# Altium footprint library Inductor1.PcbLib: 19 footprints (part 1 of 2)
Each footprint in its own frame and in the unit in brackets; x right, y up, seen from the top. Pads: shape width x height; smd on the part's side, far side on the other; paste and mask are expansions set on the pad; w line width, h text height; cw(c..) or ccw(c..) is an arc to the next point about the centre after c.
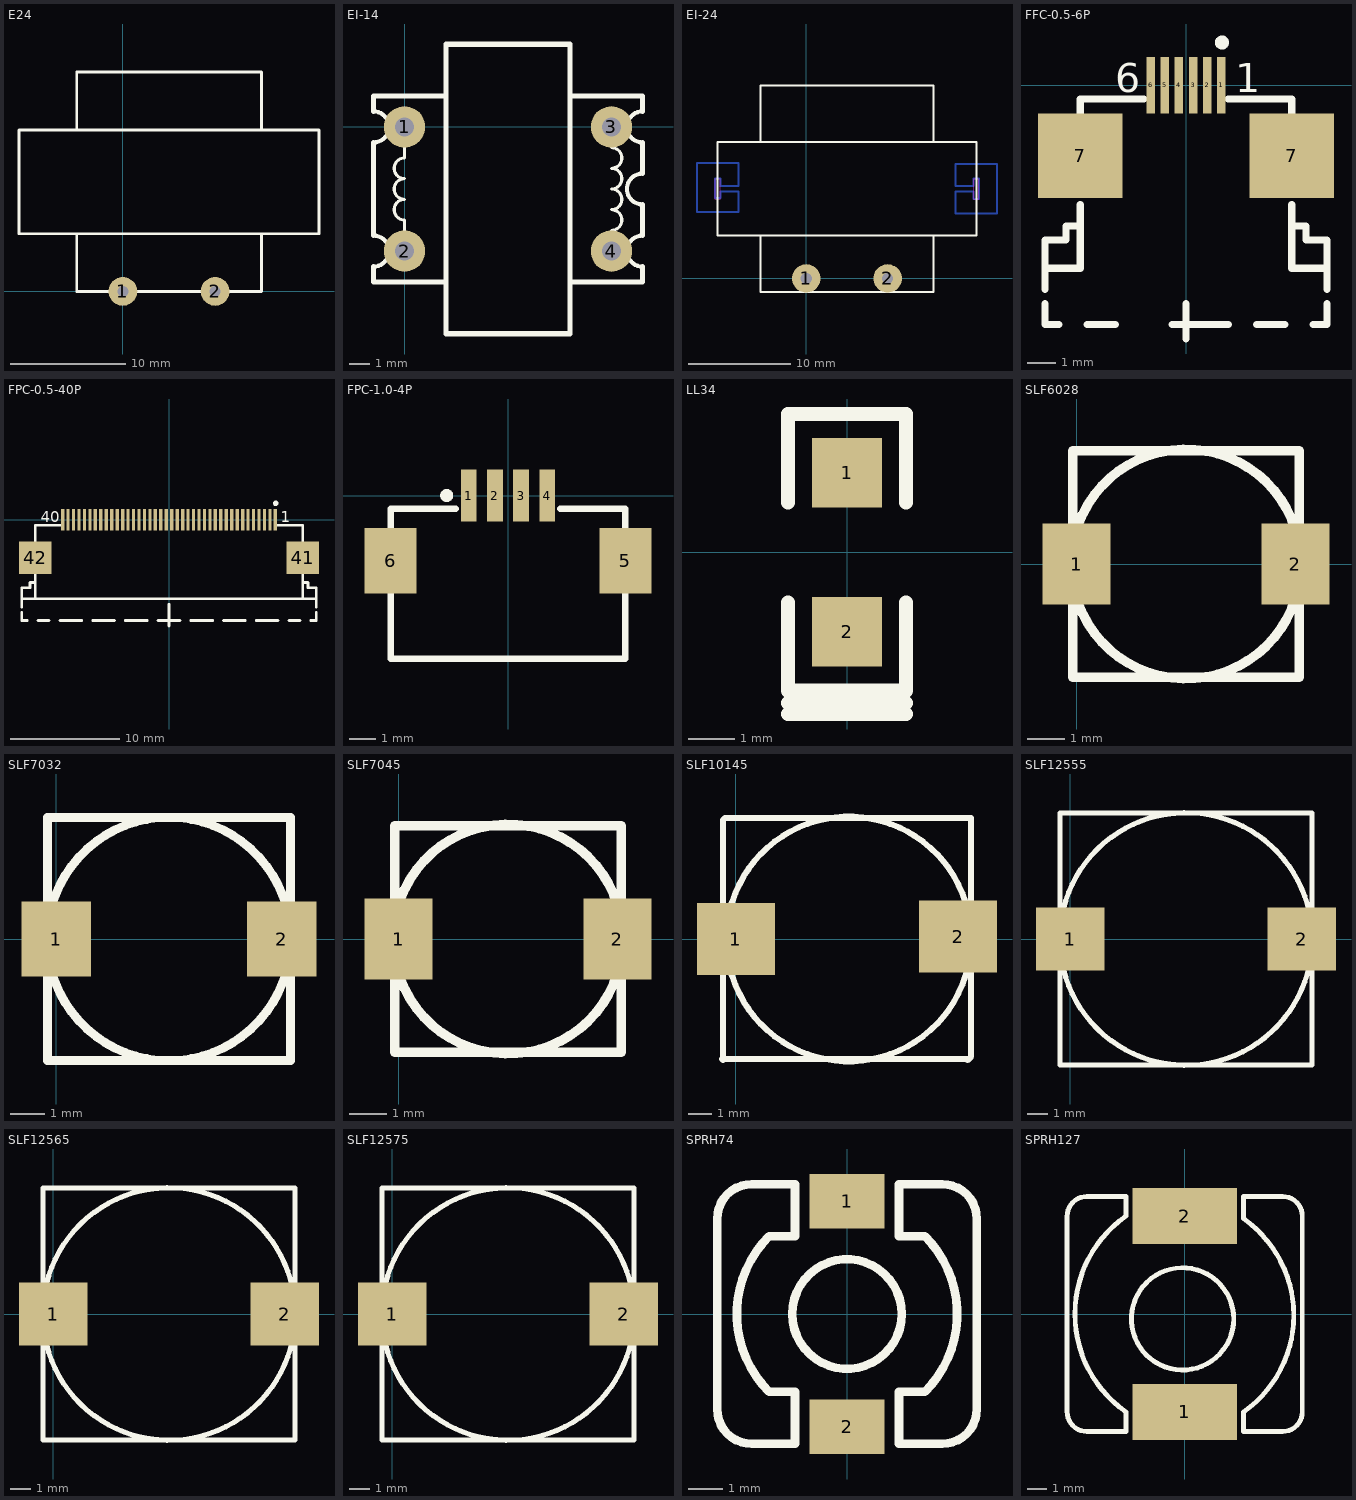
[diagram p0: the footprints below, top view; thin cyan lines are the x and y axes]

## E24 [mm]
pads (2):
  round 2.5 hole 0.94: 1(0,0) 2(8,0)
Top Overlay:
  lines w0.25: -9,5 -9,14 ; -9,5 -4,5 -4,0 12,0 12,5 17,5 ; -9,5 -9,14 ; -9,5 17,5 ; -9,14 -4,14 -4,19 12,19 12,14 17,14 ; -9,14 17,14 ; 17,5 17,14 ; 17,5 17,14

## EI-14 [mm]
pads (4):
  round 2 hole 0.93: 1(0,0) 2(0,-6) 3(10,0) 4(10,-6)
Top Overlay:
  lines w0.15: 0,-5.5 0,-5 0,-4.5 cw(c0,-4) 0,-3.5 cw(c0,-3) 0,-2.5 cw(c0,-2) 0,-1.5 0,-1 0,-0.5 ; 10,-5.5 10,-5 ccw(c10,-4.5) 10,-4 ccw(c10,-3.5) 10,-3 ccw(c10,-2.5) 10,-2 ccw(c10,-1.5) 10,-1 10,-0.5
  lines w0.2: -1.5,-6.75 ccw(c-1.5,-6) -1.5,-5.25 ; -1.5,-0.75 ccw(c-1.5,0) -1.5,0.75 ; 11.5,-6.75 cw(c11.5,-6) 11.5,-5.25 ; 11.5,-3.75 cw(c11.5,-3) 11.5,-2.25 ; 11.5,-0.75 cw(c11.5,0) 11.5,0.75
  lines w0.254: -1.5,-6.75 -1.5,-7.5 2,-7.5 ; -1.5,-5.25 -1.5,-0.75 ; -1.5,0.75 -1.5,1.5 2,1.5 ; 8,-7.5 11.5,-7.5 11.5,-6.75 ; 8,1.5 11.5,1.5 11.5,0.75 ; 11.5,-5.25 11.5,-3.75 ; 11.5,-2.25 11.5,-0.75 ; 2,-10 2,4 8,4 8,-10 2,-10

## EI-24 [mm]
pads (2):
  round 2.8 hole 1.1: 1(0,0) 2(8,0)
Bottom Layer:
  lines w0.2: -10.722,6.526 -6.658,6.526 -6.658,8.558 -8.436,8.558 -8.436,7.923 -8.944,7.923 -8.944,9.828 -8.436,9.828 -8.436,9.066 -6.658,9.066 -6.658,11.352 -10.722,11.352 -10.722,6.526 ; 14.678,6.399 18.742,6.399 18.742,11.225 14.678,11.225 14.678,9.066 16.456,9.066 16.456,9.828 16.964,9.828 16.964,7.796 16.456,7.796 16.456,8.558 14.678,8.558 14.678,6.399
Top Overlay:
  lines w0.2: -4.499,4.24 -4.499,-1.348 12.519,-1.348 12.519,4.24 ; -4.499,13.384 -4.499,18.972 12.519,18.972 12.519,13.384 ; -8.69,4.24 -8.69,13.384 16.71,13.384 16.71,4.24 -8.69,4.24
Keep-Out Layer:
  lines w0.05: -8.954,7.784 -8.446,7.784 -8.446,9.816 -8.954,9.816 -8.954,7.784 ; 16.446,7.784 16.954,7.784 16.954,9.816 16.446,9.816 16.446,7.784

## FFC-0.5-6P [mm]
height 1
pads (8):
  rect 0.3x2 smd: 1(1.25,0) 2(0.75,0) 3(0.25,0) 4(-0.25,0) 5(-0.75,0) 6(-1.25,0)
  rect 3x3 smd: 7(-3.75,-2.5) 7(3.75,-2.5)
Top Overlay:
  circle w0.25: c1.275,1.51 r0.125
  lines w0.254: -5,-7.74 -5,-8.49 -4.5,-8.49 ; -5,-7.24 -5,-6.49 ; -3.75,-4.99 -4.25,-4.99 -4.25,-5.49 -5,-5.49 -5,-6.49 ; -3.75,-4.24 -3.75,-6.49 -5,-6.49 ; -3.75,-1.99 -3.75,-0.49 -1.5,-0.49 ; -3.5,-8.49 -2.5,-8.49 ; -0.5,-8.49 1.5,-8.49 ; 0,-9 0,-7.75 ; 1.5,-0.49 3.75,-0.49 3.75,-1.99 ; 2.5,-8.49 3.5,-8.49 ; 3.75,-4.99 4.25,-4.99 4.25,-5.49 5,-5.49 5,-6.49 ; 3.75,-4.24 3.75,-6.49 5,-6.49 ; 4.5,-8.49 5,-8.49 5,-7.74 ; 5,-7.24 5,-6.49
  text "1" at 1.75,-0.25 h1.02
  text "6" at -2.5,-0.25 h1.02
3D body "5664.stp": height 2, standoff 0, extent -4.55,-6.45 4.55,-0.05

## FPC-0.5-40P [mm]
height 1
pads (42):
  rect 0.3x2 smd: 1(9.75,0) 2(9.25,0) 3(8.75,0) 4(8.25,0) 5(7.75,0) 6(7.25,0) 7(6.75,0) 8(6.25,0) 9(5.75,0) 10(5.25,0) 11(4.75,0) 12(4.25,0) 13(3.75,0) 14(3.25,0) 15(2.75,0) 16(2.25,0) 17(1.75,0) 18(1.25,0) 19(0.75,0) 20(0.25,0) 21(-0.25,0) 22(-0.75,0) 23(-1.25,0) 24(-1.75,0) 25(-2.25,0) 26(-2.75,0) 27(-3.25,0) 28(-3.75,0) 29(-4.25,0) 30(-4.75,0) 31(-5.25,0) 32(-5.75,0) 33(-6.25,0) 34(-6.75,0) 35(-7.25,0) 36(-7.75,0) 37(-8.25,0) 38(-8.75,0) 39(-9.25,0) 40(-9.75,0)
  rect 3x3 smd: 41(12.25,-3.49) 42(-12.25,-3.49)
Top Overlay:
  circle w0.25: c9.775,1.51 r0.125
  lines w0.254: -13.5,-8.49 -13.5,-9.24 -13,-9.24 ; -13.5,-7.99 -13.5,-7.24 ; -12.25,-5.74 -12.75,-5.74 -12.75,-6.24 -13.5,-6.24 -13.5,-7.24 ; -12.25,-4.99 -12.25,-7.24 ; -12.25,-1.99 -12.25,-0.49 -10,-0.49 ; -12,-9.24 -11,-9.24 ; -10,-9.24 -8,-9.24 ; -7,-9.24 -5,-9.24 ; -4,-9.24 -2,-9.24 ; -1,-9.24 1,-9.24 ; 0,-9.74 0,-7.74 ; 2,-9.24 4,-9.24 ; 5,-9.24 7,-9.24 ; 8,-9.24 10,-9.24 ; 10,-0.49 12.25,-0.49 12.25,-1.99 ; 11,-9.24 12,-9.24 ; 12.25,-5.74 12.75,-5.74 12.75,-6.24 13.5,-6.24 13.5,-7.24 ; 12.25,-4.99 12.25,-7.24 ; 13,-9.24 13.5,-9.24 13.5,-8.49 ; 13.5,-7.99 13.5,-7.24 ; -13.5,-7.24 -12.25,-7.24 ; -12.25,-7.24 12.25,-7.24 ; 12.25,-7.24 13.5,-7.24
  text "1" at 10.25,-0.24 h1.02
  text "40" at -11.75,-0.24 h1.02
3D body "ffc_fpc_affc20-40-050-shb-t.stp": height 2.05, standoff -0.05, extent -12.75,-5.5 12.75,-0.164

## FPC-1.0-4P [mm]
height 1
pads (6):
  rect 0.6x2 smd: 1(-1.5,0) 2(-0.5,0) 3(0.5,0) 4(1.5,0)
  rect 2x2.5 smd: 5(4.5,-2.5) 6(-4.5,-2.5)
Top Overlay:
  circle w0.25: c-2.35,0 r0.125
  lines w0.254: -4.5,-3.75 -4.5,-6.25 4.5,-6.25 4.5,-3.75 ; -4.5,-1.25 -4.5,-0.5 -2,-0.5 ; 2,-0.5 4.5,-0.5 4.5,-1.25
3D body "5536.STEP": height 2.65, standoff -0.05, extent -5.15,-8.475 5.15,0.425

## LL34 [mm]
pads (2):
  rect 1.5x1.5 smd: 1(0,1.714) 2(0,-1.714)
Top Overlay:
  lines w0.305: -1.27,-3.484 1.27,-3.484 ; -1.27,-3.244 1.27,-3.244 ; -1.27,-1.079 -1.27,-2.984 1.27,-2.984 1.27,-1.079 ; -1.27,1.079 -1.27,2.984 1.27,2.984 1.27,1.079
3D body "User Library-smd diode 1206.STEP": height 1.43, standoff -0.02, extent -0.725,-1.75 0.725,1.75

## SLF6028 [mm]
pads (2):
  rect 1.8x2.15 smd: 1(0,0) 2(5.8,0)
Top Overlay:
  circle w0.254: c2.9,0 r3.041
  lines w0.254: -0.1,-3 5.9,-3 5.9,3 -0.1,3 -0.1,-3

## SLF7032 [mm]
pads (2):
  rect 2x2.15 smd: 1(0,0) 2(6.5,0)
Top Overlay:
  circle w0.254: c3.25,0 r3.509
  lines w0.254: -0.25,-3.5 -0.25,3.5 6.75,3.5 6.75,-3.5 -0.25,-3.5

## SLF7045 [mm]
pads (2):
  rect 1.8x2.15 smd: 1(0,0) 2(5.8,0)
Top Overlay:
  circle w0.254: c2.9,0 r3.041
  lines w0.254: -0.1,-3 -0.1,3 5.9,3 5.9,-3 -0.1,-3

## SLF10145 [mil]
pads (2):
  rect 130x120 smd: 1(0,0) 2(370.08,3.94)
Top Overlay:
  circle w10: c188.04,0 r204.01
  lines w10: -22.96,-200 385.04,-200 ; -21.96,-202 -21.96,0 ; -21.96,-12 -21.96,198 -17.96,202 392.04,202 392.04,-196 ; 392.04,-196 386.04,-202 392.04,-196

## SLF12555 [mm]
pads (2):
  rect 3.4x3.15 smd: 1(0,0) 2(11.5,0)
Top Overlay:
  circle w0.254: c5.75,0 r6.27
  lines w0.254: -0.5,-6.25 12,-6.25 12,6.25 -0.5,6.25 -0.5,-6.25

## SLF12565 [mm]
pads (2):
  rect 3.4x3.15 smd: 1(0,0) 2(11.5,0)
Top Overlay:
  circle w0.254: c5.75,0 r6.27
  lines w0.254: -0.5,-6.25 12,-6.25 12,6.25 -0.5,6.25 -0.5,-6.25

## SLF12575 [mm]
pads (2):
  rect 3.4x3.15 smd: 1(0,0) 2(11.5,0)
Top Overlay:
  circle w0.254: c5.75,0 r6.27
  lines w0.254: -0.5,-6.25 -0.5,6.25 12,6.25 12,-6.25 -0.5,-6.25

## SPRH74 [mm]
pads (2):
  rect 2.2x1.6 smd: 1(0,3.302) 2(0,-3.302)
Top Overlay:
  circle w0.254: c0,0 r1.606
  lines w0.254: -3.81,-2.794 ccw(c-2.794,-2.794) -2.794,-3.81 -1.524,-3.81 -1.524,-2.286 -2.286,-2.286 cw(c0,0) -2.286,2.286 -1.524,2.286 -1.524,3.81 -2.794,3.81 ccw(c-2.794,2.794) -3.81,2.794 -3.81,-2.794 ; 1.524,-3.81 2.794,-3.81 ccw(c2.794,-2.794) 3.81,-2.794 3.81,2.794 ccw(c2.794,2.794) 2.794,3.81 1.524,3.81 1.524,2.286 2.286,2.286 cw(c0,0) 2.286,-2.286 1.524,-2.286 1.524,-3.81

## SPRH127 [mm]
pads (2):
  rect 5.4x2.9 smd: 1(0,-5.08) 2(0,5.08)
Top Overlay:
  circle w0.254: c-0.112,-0.254 r2.652
  lines w0.254: -6.096,-5.08 ccw(c-5.08,-5.08) -5.08,-6.096 -3.048,-6.096 -3.048,-5.08 cw(c0.508,0) -3.048,5.08 -3.048,6.096 -5.08,6.096 ccw(c-5.08,5.08) -6.096,5.08 -6.096,-5.08 ; 3.048,-6.096 3.048,-5.08 ccw(c-0.46,-0.069) 3.048,4.943 3.048,6.096 5.08,6.096 cw(c5.08,5.08) 6.096,5.08 6.096,-5.08 cw(c5.08,-5.08) 5.08,-6.096 3.048,-6.096